# Altium schematic symbol library MarioLib.SchLib: 24 symbols
Pins are listed as number, name and electrical type; pins without a type are passive.

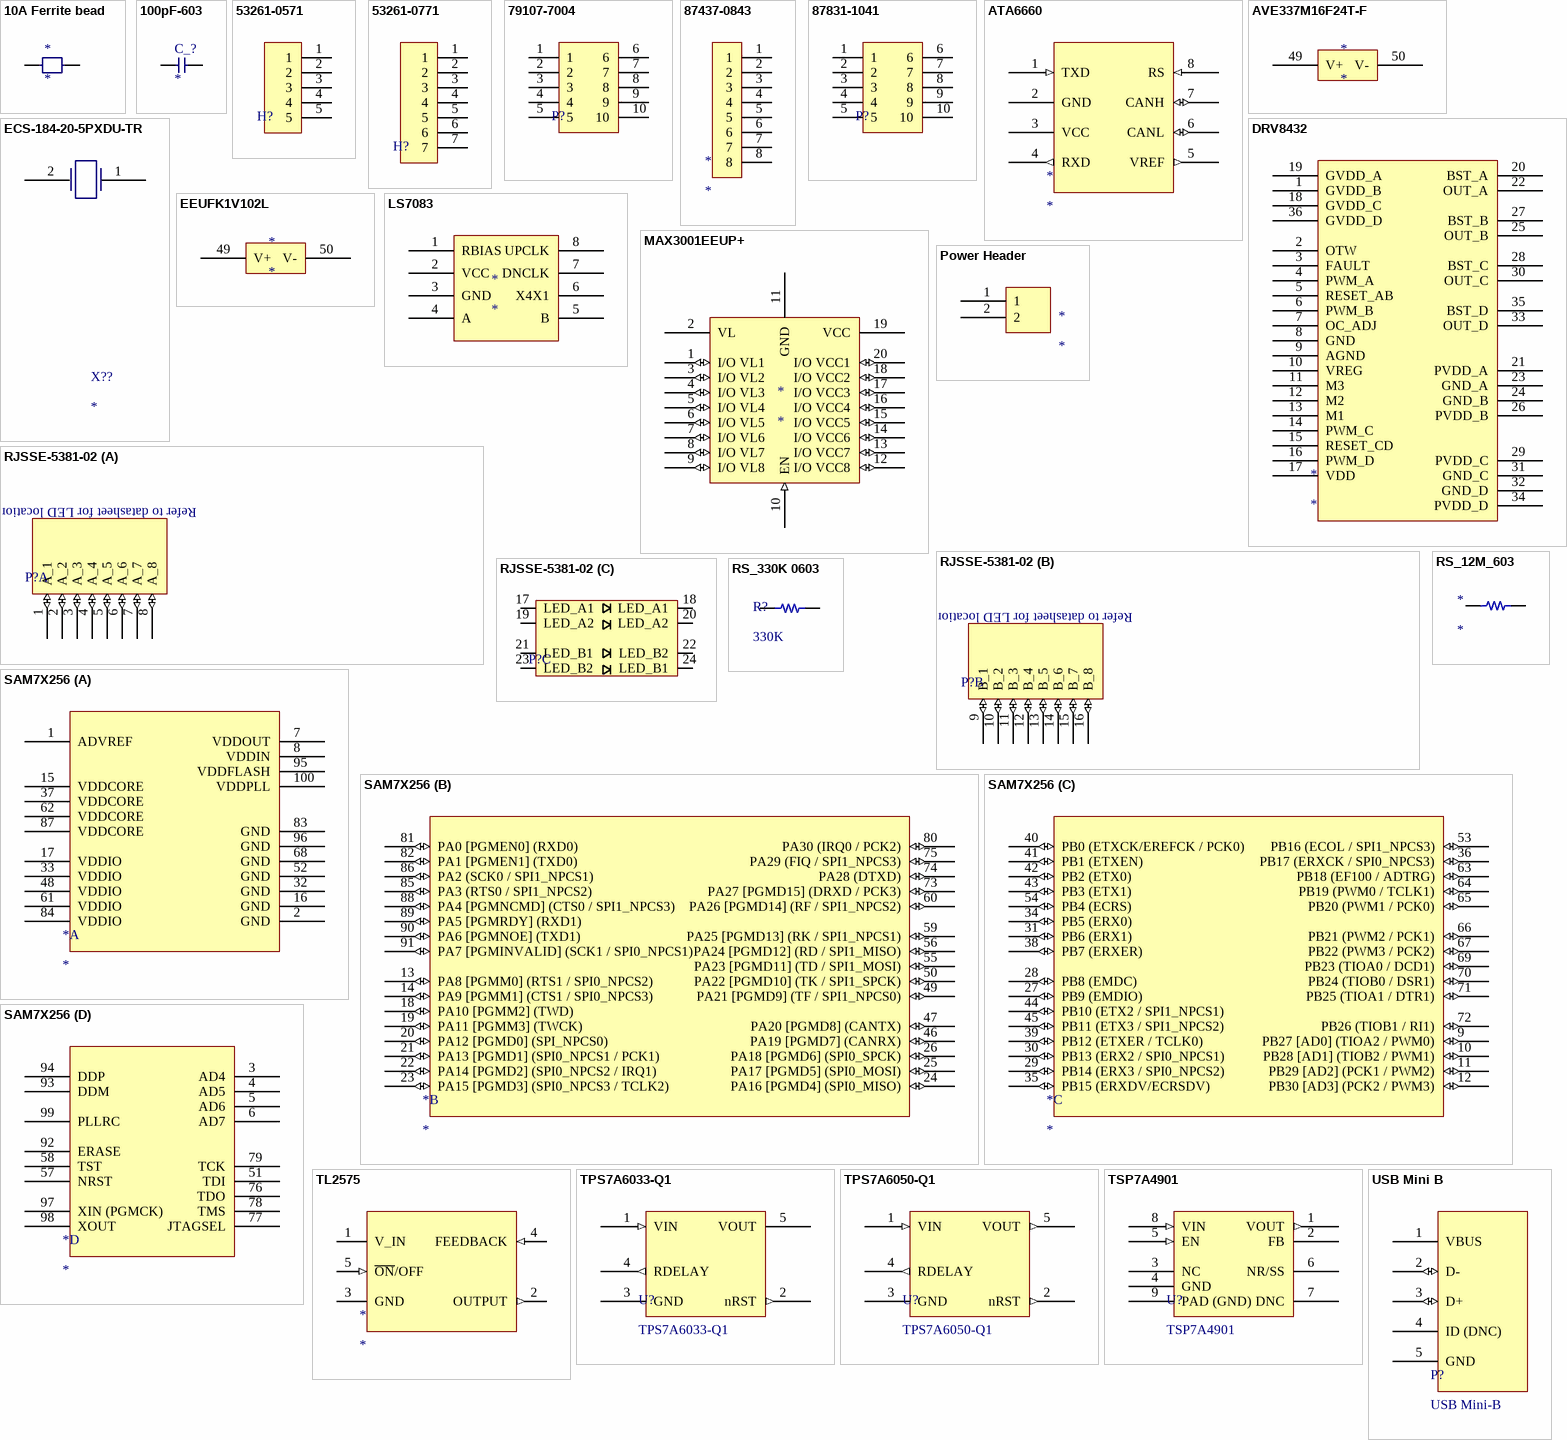
[diagram p0: symbols 10A Ferrite bead to USB Mini B]

## 10A Ferrite bead
designator *
pins: 1, 2

## 100pF-603
designator C_?
Manufacturer Part Number: 06035A101JAT2A; Manufacturer: AVX Corporation; Supplier 1: Digi-Key; Supplier Part Number 1: 478-1175-1-ND
footprint 0603 Resistor
pins: 1, 2

## 53261-0571
designator H?
5-pin PicoBlade Right-angle Header; Manufacturer: Molex; Manufacturer Part Number: 53261-0571; Supplier: Digikey; Supplier Part Number: WM7623CT-ND
footprint 53261-0571 (5-pin PicoBlade Right-angle header)
pins: 1, 2, 3, 4, 5

## 53261-0771
designator H?
7-pin PicoBlade Right-angle Header; Manufacturer: Molex; Manufacturer Part Number: 53261-0771; Supplier: Digikey; Supplier Part Number: WM7625CT-ND
footprint 53261-0771 (7 pin PicoBlade right-angle header)
pins: 1, 2, 3, 4, 5, 6, 7

## 79107-7004
designator P?
CONN RECEPT 2MM 10POS VERT; Manufacturer: Molex; Manufacturer PN: 79107-7004; Supplier 1: Digi-Key; Supplier Part Number 1: WM18676-ND
footprint 79107-7004
pins: 1, 2, 3, 4, 5, 6, 7, 8, 9, 10

## 87437-0843
designator *
Manufacturer: Molex; Manufacturer Part Number: 87437-0843; Supplier: Digikey; Supplier Part Number: WM7667CT-ND
footprint 87437-0843
pins: 1, 2, 3, 4, 5, 6, 7, 8

## 87831-1041
designator P?
HEADER MALE 10POS VERT W/LOCK; Manufacturer: Molex; Manufacturer PN: 87831-1041; Supplier 1: Digi-Key; Supplier Part Number 1: WM3591-ND
footprint 87831-1041
pins: 1, 2, 3, 4, 5, 6, 7, 8, 9, 10

## ATA6660
designator *
Manufacturer: Atmel; Manufacturer Part Number: ATA6660-TAPY-19; Supplier 1: Mouser; Supplier Part Number 1: 556-ATA6660TAPY
footprint SOIC127P600X150-8N (SOIC, 8-Leads, Body 5.0x3.9mm (max), Pitch 1.27mm, IPC Medium Density)
pins: 1 TXD (in), 2 GND, 3 VCC (power), 4 RXD (out), 5 VREF (out), 6 CANL (io), 7 CANH (io), 8 RS (in)

## AVE337M16F24T-F
designator *
pins: 49 V+, 50 V-

## DRV8432
designator *
pins: 1 GVDD_B, 2 OTW, 3 FAULT, 4 PWM_A, 5 RESET_AB, 6 PWM_B, 7 OC_ADJ, 8 GND, 9 AGND, 10 VREG, 11 M3, 12 M2, 13 M1, 14 PWM_C, 15 RESET_CD, 16 PWM_D, 17 VDD, 18 GVDD_C, 19 GVDD_A, 20 BST_A, 21 PVDD_A, 22 OUT_A, 23 GND_A, 24 GND_B, 25 OUT_B, 26 PVDD_B, 27 BST_B, 28 BST_C, 29 PVDD_C, 30 OUT_C, 31 GND_C, 32 GND_D, 33 OUT_D, 34 PVDD_D, 35 BST_D, 36 GVDD_D

## ECS-184-20-5PXDU-TR
designator X??
Manufacturer: ECS Inc; Manufacturer Part Number: ECS-184-20-5PXDU-TR; Supplier Part Number 1: XC1536CT-ND; Supplier 1: Digikey
footprint HC49/US
pins: 1 18, 2 19

## EEUFK1V102L
designator *
pins: 49 V+, 50 V-

## LS7083
designator *
pins: 1 RBIAS, 2 VCC, 3 GND, 4 A, 5 B, 6 X4X1, 7 DNCLK, 8 UPCLK

## MAX3001EEUP+
designator *
Manufacture: MAXIM INTEGRATED PRODUCTS; Manufacture PN: MAX3001EEUP+; Supplier Part Number 1: 1379763; Supplier 1: Element 14
footprint TSOP65P640X110-20N (TSOP, 20-Leads, Body 6.6x4.5mm (max), Pitch 0.65mm, IPC Medium Density)
pins: 1 I/O VL1 (io), 2 VL (power), 3 I/O VL2 (io), 4 I/O VL3 (io), 5 I/O VL4 (io), 6 I/O VL5 (io), 7 I/O VL6 (io), 8 I/O VL7 (io), 9 I/O VL8 (io), 10 EN (in), 11 GND, 12 I/O VCC8 (io), 13 I/O VCC7 (io), 14 I/O VCC6 (io), 15 I/O VCC5 (io), 16 I/O VCC4 (io), 17 I/O VCC3 (io), 18 I/O VCC2 (io), 19 VCC (power), 20 I/O VCC1 (io)

## Power Header
designator *
pins: 1, 2

## RJSSE-5381-02
designator P?  (value not drawn)
RJ45 SMT Right Angle x2; Manufacturer: Amphenol Commercial Products; Supplier 1: Digikey; Supplier Part Number 1: RJSSE-5381-02-ND; Manufacturer Part Number: RJSSE-5381-02
footprint RJSSE-5381-02
part A pins: 1 A_1 (io), 2 A_2 (io), 3 A_3 (io), 4 A_4 (io), 5 A_5 (io), 6 A_6 (io), 7 A_7 (io), 8 A_8 (io)
part B pins: 9 B_1 (io), 10 B_2 (io), 11 B_3 (io), 12 B_4 (io), 13 B_5 (io), 14 B_6 (io), 15 B_7 (io), 16 B_8 (io)
part C pins: 17 LED_A1, 18 LED_A1, 19 LED_A2, 20 LED_A2, 21 LED_B1, 22 LED_B2, 23 LED_B2, 24 LED_B1
part A text: Refer to datasheet for LED location
part B text: Refer to datasheet for LED location

## RS_12M_603
designator *
Manufacturer: Panasonic - ECG; Manufacturer Part Number: ERJ-3GEYK126V; Supplier Part Number 1: P12MGCT-ND; Supplier 1: Digi-Key
footprint 0603 Resistor
pins: 1, 2

## RS_330K 0603
designator R?, comment 330K
Manufacturer Part Number: ERJ-3EKF3303V; Manufacturer: Panasonic - ECG; Supplier Part Number 1: P330KHCT-ND; Supplier 1: Digi-Key
footprint 0603 Resistor
pins: 1, 2

## SAM7X256
designator *
Manufacturer: Atmel; Manufacturer Part Number: AT91SAM7XC256B-AU; Supplier Part Number 1: AT91SAM7XC256B-AU-ND; Supplier 1: Digi-Key
footprint TSQFP50P1600X1600X160-100N (TSQFP, 100-Leads, Body 16.0x16.0mm (max), Pitch 0.50mm, IPC Medium Density)
part A pins: 1 ADVREF, 2 GND, 7 VDDOUT, 8 VDDIN, 15 VDDCORE, 16 GND, 17 VDDIO, 32 GND, 33 VDDIO, 37 VDDCORE, 48 VDDIO, 52 GND, 61 VDDIO, 62 VDDCORE, 68 GND, 83 GND, 84 VDDIO, 87 VDDCORE, 95 VDDFLASH, 96 GND, 100 VDDPLL
part B pins: 13 PA8 [PGMM0] (RTS1 / SPI0_NPCS2) (io), 14 PA9 [PGMM1] (CTS1 / SPI0_NPCS3) (io), 18 PA10 [PGMM2] (TWD) (io), 19 PA11 [PGMM3] (TWCK) (io), 20 PA12 [PGMD0] (SPI_NPCS0) (io), 21 PA13 [PGMD1] (SPI0_NPCS1 / PCK1) (io), 22 PA14 [PGMD2] (SPI0_NPCS2 / IRQ1) (io), 23 PA15 [PGMD3] (SPI0_NPCS3 / TCLK2) (io), 24 PA16 [PGMD4] (SPI0_MISO) (io), 25 PA17 [PGMD5] (SPI0_MOSI) (io), 26 PA18 [PGMD6] (SPI0_SPCK) (io), 46 PA19 [PGMD7] (CANRX) (io), 47 PA20 [PGMD8] (CANTX) (io), 49 PA21 [PGMD9] (TF / SPI1_NPCS0) (io), 50 PA22 [PGMD10] (TK / SPI1_SPCK) (io), 55 PA23 [PGMD11] (TD / SPI1_MOSI) (io), 56 PA24 [PGMD12] (RD / SPI1_MISO) (io), 59 PA25 [PGMD13] (RK / SPI1_NPCS1) (io), 60 PA26 [PGMD14] (RF / SPI1_NPCS2) (io), 73 PA27 [PGMD15] (DRXD / PCK3) (io), 74 PA28 (DTXD) (io), 75 PA29 (FIQ / SPI1_NPCS3) (io), 80 PA30 (IRQ0 / PCK2) (io), 81 PA0 [PGMEN0] (RXD0) (io), 82 PA1 [PGMEN1] (TXD0) (io), 85 PA3 (RTS0 / SPI1_NPCS2) (io), 86 PA2 (SCK0 / SPI1_NPCS1) (io), 88 PA4 [PGMNCMD] (CTS0 / SPI1_NPCS3) (io), 89 PA5 [PGMRDY] (RXD1) (io), 90 PA6 [PGMNOE] (TXD1) (io), 91 PA7 [PGMINVALID] (SCK1 / SPI0_NPCS1) (io)
part C pins: 9 PB27 [AD0] (TIOA2 / PWM0) (io), 10 PB28 [AD1] (TIOB2 / PWM1) (io), 11 PB29 [AD2] (PCK1 / PWM2) (io), 12 PB30 [AD3] (PCK2 / PWM3) (io), 27 PB9 (EMDIO) (io), 28 PB8 (EMDC) (io), 29 PB14 (ERX3 / SPI0_NPCS2) (io), 30 PB13 (ERX2 / SPI0_NPCS1) (io), 31 PB6 (ERX1) (io), 34 PB5 (ERX0) (io), 35 PB15 (ERXDV/ECRSDV) (io), 36 PB17 (ERXCK / SPI0_NPCS3) (io), 38 PB7 (ERXER) (io), 39 PB12 (ETXER / TCLK0) (io), 40 PB0 (ETXCK/EREFCK / PCK0) (io), 41 PB1 (ETXEN) (io), 42 PB2 (ETX0) (io), 43 PB3 (ETX1) (io), 44 PB10 (ETX2 / SPI1_NPCS1) (io), 45 PB11 (ETX3 / SPI1_NPCS2) (io), 53 PB16 (ECOL / SPI1_NPCS3) (io), 54 PB4 (ECRS) (io), 63 PB18 (EF100 / ADTRG) (io), 64 PB19 (PWM0 / TCLK1) (io), 65 PB20 (PWM1 / PCK0) (io), 66 PB21 (PWM2 / PCK1) (io), 67 PB22 (PWM3 / PCK2) (io), 69 PB23 (TIOA0 / DCD1) (io), 70 PB24 (TIOB0 / DSR1) (io), 71 PB25 (TIOA1 / DTR1) (io), 72 PB26 (TIOB1 / RI1) (io)
part D pins: 3 AD4, 4 AD5, 5 AD6, 6 AD7, 51 TDI, 57 NRST, 58 TST, 76 TDO, 77 JTAGSEL, 78 TMS, 79 TCK, 92 ERASE, 93 DDM, 94 DDP, 97 XIN (PGMCK), 98 XOUT, 99 PLLRC

## TL2575
designator *
Supplier 1: TI Samples
footprint TO170P1524X483-6N (D2-PAK, 6-Pads, Body 9.6x10.7mm (max), IPC Medium Density)
pins: 1 V_IN, 2 OUTPUT (out), 3 GND, 4 FEEDBACK (in), 5 ~{ON}/OFF (in)

## TPS7A6033-Q1
designator U?
Supplier 1: TI Samples
footprint TO170P1524X483-6N (D2-PAK, 6-Pads, Body 9.6x10.7mm (max), IPC Medium Density)
pins: 1 VIN (in), 2 nRST (out), 3 GND, 4 RDELAY (out), 5 VOUT (power)

## TPS7A6050-Q1
designator U?
Supplier 1: TI Samples
footprint TO170P1524X483-6N (D2-PAK, 6-Pads, Body 9.6x10.7mm (max), IPC Medium Density)
pins: 1 VIN (in), 2 nRST (out), 3 GND, 4 RDELAY (out), 5 VOUT (out)

## TSP7A4901
designator U?
Supplier 1: TI Samples
footprint TSOP65P490X110_HS-8N (TSOP, 8-Leads, Body 3.1x3.1mm (max), Pitch 0.65mm, IPC Medium Density)
pins: 1 VOUT (out), 2 FB, 3 NC, 4 GND, 5 EN (in), 6 NR/SS, 7 DNC, 8 VIN (in), 9 PAD (GND)

## USB Mini B
designator P?, comment USB Mini-B
Manufacturer: TE Connectivity; Manufacturer Part Number: 1734035-2; Supplier 1: Digikey; Supplier Part Number 1: A31727CT-ND
footprint USB Mini-B
pins: 1 VBUS (power), 2 D- (io), 3 D+ (io), 4 ID (DNC), 5 GND